# EAGLE library part SN74LVC1T45DBVR (library nebrius)
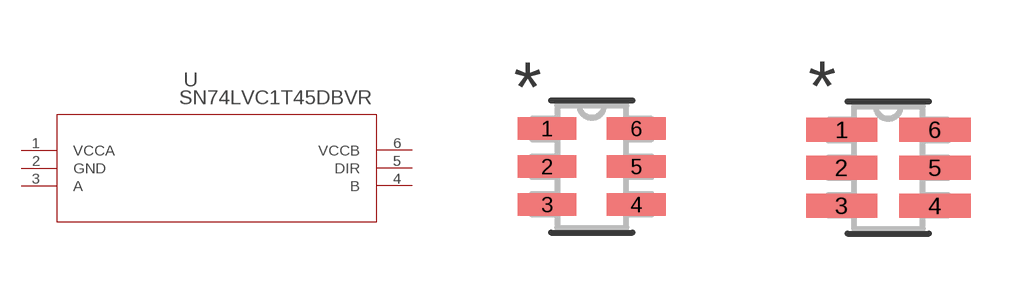
[diagram p2: symbol with the pads of DBV6; footprints DBV6, DBV6-M]

Designator prefix U

## SN74LVC1T45DBVR (MANUFACTURER_PART_NUMBER: SN74LVC1T45DBVR; VENDOR: Texas Instruments)  [DBV6]
1  VCCA  pwr
2  GND  pwr
3  A  in
4  B  in
5  DIR  in
6  VCCB  pwr

## SN74LVC1T45DBVRDBV6-M (MANUFACTURER_PART_NUMBER: SN74LVC1T45DBVR; VENDOR: Texas Instruments)  [DBV6-M]
Pads as for DBV6

## SN74LVC1T45DBVRDBV6-L (MANUFACTURER_PART_NUMBER: SN74LVC1T45DBVR; VENDOR: Texas Instruments)  [DBV6-L]
Pads as for DBV6

## Footprint DBV6 (pad centres in mm)
smd 1.473 x 0.559: 1 -1.118,0.95; 2 -1.118,0; 3 -1.118,-0.95; 4 1.118,-0.95; 5 1.118,0; 6 1.118,0.95

## Footprint DBV6-M (pad centres in mm)
smd 1.778 x 0.61: 1 -1.168,0.95; 2 -1.168,0; 3 -1.168,-0.95; 4 1.168,-0.95; 5 1.168,0; 6 1.168,0.95

## Footprint DBV6-L (pad centres in mm)
smd 1.168 x 0.508: 1 -1.067,0.95; 2 -1.067,0; 3 -1.067,-0.95; 4 1.067,-0.95; 5 1.067,0; 6 1.067,0.95